# EAGLE library part LT3008 (library LT3008)
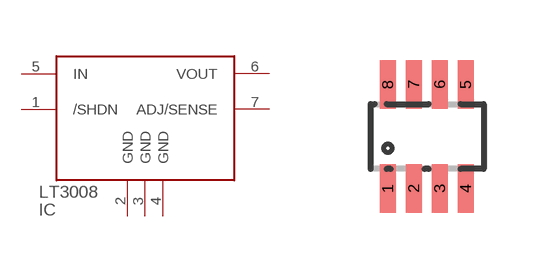
[diagram p0: symbol with the pads of SOT23-8; footprint SOT23-8]

Designator prefix IC

## LT3008  [SOT23-8]
1  /SHDN  in
2  GND  sup
3  GND  sup
4  GND  sup
5  IN  in
6  VOUT  out
7  ADJ/SENSE  in

## Footprint SOT23-8 (pad centres in mm)
smd 0.4 x 1.22: 1 -0.975,-1.3; 2 -0.325,-1.3; 3 0.325,-1.3; 4 0.975,-1.3; 5 0.975,1.3; 6 0.325,1.3; 7 -0.325,1.3; 8 -0.975,1.3